# EAGLE library part BALUN-2450BM (library NordicSemi)
General Specifications: Part Number 2450BM14A0002 Insertion Loss 2.0 dB max. Frequency (MHz) 2400 - 2500 Return Loss 9.5 dB min. Unbalanced Impedance 50 Ω Phase Difference 160° ± 15° Amplitude Difference 3.5 ± 1.5 dB Reel Quanity 4,000 Operating Temperature -40 to +85°C Attenuation: Common Mode 2.45 GHz Impedance Matched Balun-Filter: Optimized for Nordic's Chipset nRF24L01/+ Differential Balanced Impedance Conjugate match to Nordic nRF24L01/nRF24L01+ Attenuation: Differential Mode 15 min.@4800~5000MHz 15 min.@7200~7500MHz
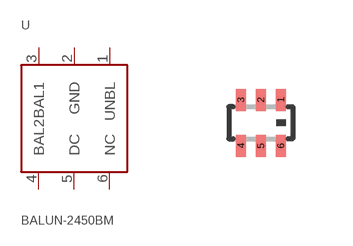
[diagram p1: symbol with the pads of 2450BM14A0002; footprint 2450BM14A0002]

Designator prefix -

## BALUN-2450BM  [2450BM14A0002]
1  UNBL
2  GND
3  BAL1
4  BAL2
5  DC
6  NC

## Footprint 2450BM14A0002 (pad centres in mm)
smd 0.25 x 0.55: 1 0.5,0.575; 2 0,0.575; 3 -0.5,0.575; 4 -0.5,-0.575; 5 0,-0.575; 6 0.5,-0.575